# Altium footprint library Sensors.PcbLib: 1 footprints
Each footprint in its own frame and in the unit in brackets; x right, y up, seen from the top. Pads: shape width x height; smd on the part's side, far side on the other; paste and mask are expansions set on the pad; w line width, h text height; cw(c..) or ccw(c..) is an arc to the next point about the centre after c.
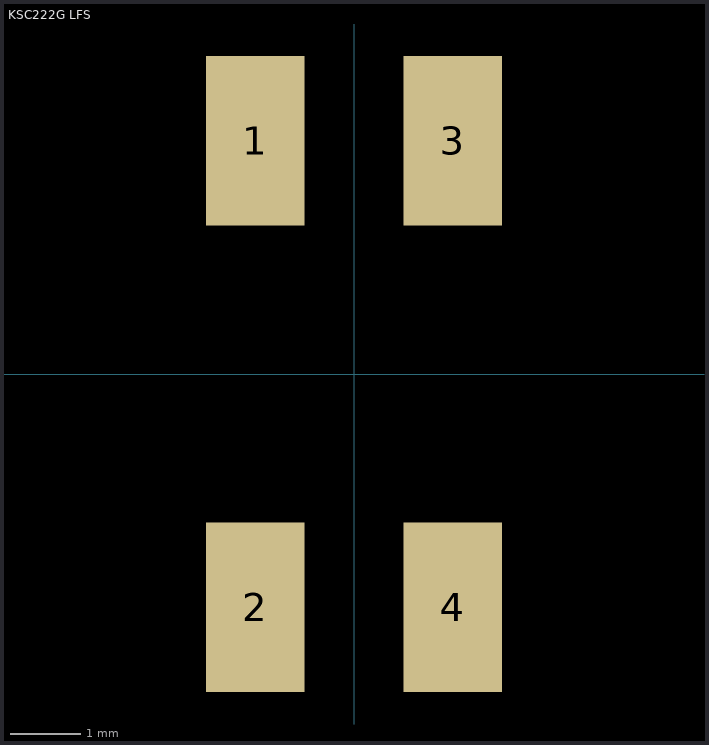
[diagram p0: the footprint, top view; thin cyan lines are the x and y axes]

## KSC222G LFS [mm]
pads (4):
  rect 1.4x2.4 smd: 1(-1.397,3.302) 2(-1.397,-3.302) 3(1.397,3.302) 4(1.397,-3.302)
3D body: height 1.5, standoff 0, extent -1.091,-1.098 1.1,1.098
3D body: height 0.6, standoff 0, extent 0,0 0,0
3D body: height 0.3, standoff 0, extent 1.143,-3.064 1.651,-2.175
3D body: height 0.3, standoff 0, extent -1.651,-3.064 -1.143,-2.175
3D body: height 0.3, standoff 0, extent -1.651,2.159 -1.143,3.048
3D body: height 0.3, standoff 0, extent 1.143,2.159 1.651,3.048
3D body: height 1.2, standoff 0, extent -2.286,-2.286 2.286,2.286